# EAGLE library part DF12-20DS (library wheat)
HIROSE DF12-20DS-0.5V
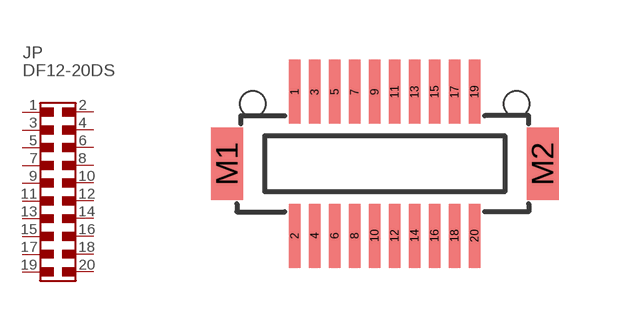
[diagram p109: symbol with the pads of DF12-20; footprint DF12-20]

Designator prefix JP

## DF12-20DS  [DF12-20]
1  1  pas
2  2  pas
3  3  pas
4  4  pas
5  5  pas
6  6  pas
7  7  pas
8  8  pas
9  9  pas
10  10  pas
11  11  pas
12  12  pas
13  13  pas
14  14  pas
15  15  pas
16  16  pas
17  17  pas
18  18  pas
19  19  pas
20  20  pas

## Footprint DF12-20 (pad centres in mm)
CONN, HIROSE DF12 SMT BOARD-TO-BOARD 20 POSITIONS
smd 0.295 x 1.6: 1 -2.25,1.8; 2 -2.25,-1.8; 3 -1.75,1.8; 4 -1.75,-1.8; 5 -1.25,1.8; 6 -1.25,-1.8; 7 -0.75,1.8; 8 -0.75,-1.8; 9 -0.25,1.8; 10 -0.25,-1.8; 11 0.25,1.8; 12 0.25,-1.8; 13 0.75,1.8; 14 0.75,-1.8; 15 1.25,1.8; 16 1.25,-1.8; 17 1.75,1.8; 18 1.75,-1.8; 19 2.25,1.8; 20 2.25,-1.8
smd 0.8 x 1.8: M1 -3.95,0; M2 3.95,0
hole 0.635 at -3.3,1.5
hole 0.635 at 3.3,1.5